# EAGLE library part LT3686 (library PowerProducts)
LT-Spice library generated with : ltspice.ulp from: D:/Program Files (x86)/LTC/LTspiceIV/lib/sym/PowerProducts/LT3686A*.asy at 07.10.2012 16:34:43
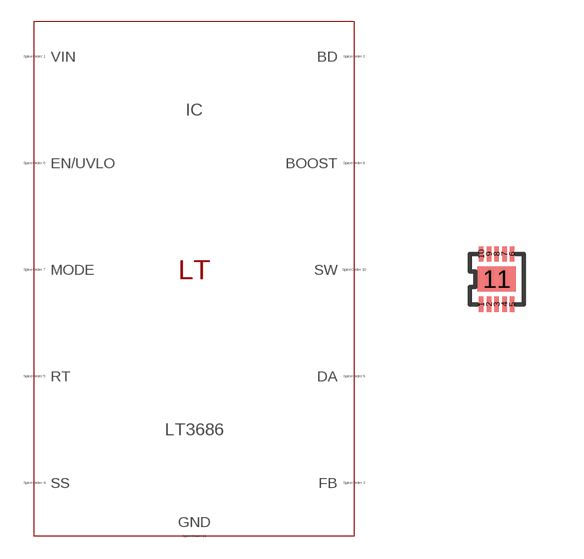
[diagram p86: symbol with the pads of DFN10(DD); footprint DFN10(DD)]

Designator prefix IC

## LT3686 (SPICEMODEL: LT3686.sub; SPICEPREFIX: X; VALUE2: LT3686)  [DFN10(DD)]
1  VIN  pas
2  BD  pas
3  FB  pas
4  SS  pas
5  RT  pas
6  EN/UVLO  pas
7  MODE  pas
8  BOOST  pas
9  DA  pas
10  SW  pas
11  GND  pas

## Footprint DFN10(DD) (pad centres in mm)
Package generated from: DFN10(DD).asc (!PADS-POWERPCB-V9.3-BASIC! DESIGN DATABASE ASCII FILE 1.0) with :import-pads-powerpcb-v5.ulp Version 1.0.1 at 04.10.2012 14:11:16
smd 0.116 x 0.387: 1 -0.387,-0.629; 2 -0.194,-0.629; 3 0,-0.629; 4 0.194,-0.629; 5 0.387,-0.629; 6 0.387,0.629; 7 0.194,0.629; 8 0,0.629; 9 -0.194,0.629; 10 -0.387,0.629
smd 0.968 x 0.629: 11 0,0